# Altium footprint library INDM540X520X300L120X220N.PcbLib: 1 footprints
Each footprint in its own frame and in the unit in brackets; x right, y up, seen from the top. Pads: shape width x height; smd on the part's side, far side on the other; paste and mask are expansions set on the pad; w line width, h text height; cw(c..) or ccw(c..) is an arc to the next point about the centre after c.
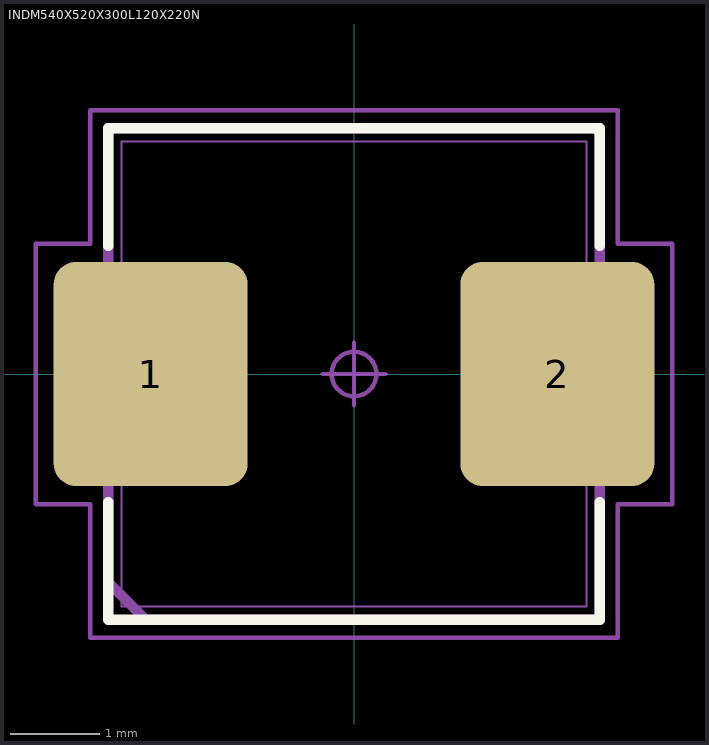
[diagram p0: the footprint, top view; thin cyan lines are the x and y axes]

## INDM540X520X300L120X220N [mm] "Inductor, Molded Body; 5.20 mm L X 5.20 mm W X 3.00 mm H body"
height 3
pads (2):
  rrect23% 2.17x2.51 smd: 1(-2.275,0) 2(2.275,0)
Top Overlay:
  lines w0.12: -2.75,-1.435 -2.75,-2.75 2.75,-2.75 2.75,-1.435 ; -2.75,1.435 -2.75,2.75 2.75,2.75 2.75,1.435
Mechanical 3:
  lines w0.12: -2.75,-2.33 -2.33,-2.75 2.75,-2.75 2.75,2.75 -2.75,2.75 -2.75,-2.33
Mechanical 5:
  lines w0.025: -2.7,-1.1 -1.5,-1.1 -1.5,1.1 -2.7,1.1 -2.7,-1.1 ; -2.6,-2.6 -2.6,2.6 2.6,2.6 2.6,-2.6 -2.6,-2.6 ; 1.5,-1.1 1.5,1.1 2.7,1.1 2.7,-1.1 1.5,-1.1
Mechanical 7:
  circle w0.05: c0,0 r0.25
  lines w0.05: -0.35,0 0.35,0 ; 0,-0.35 0,0.35 ; -3.56,-1.455 -3.56,1.455 -2.95,1.455 -2.95,2.95 2.95,2.95 2.95,1.455 3.56,1.455 3.56,-1.455 2.95,-1.455 2.95,-2.95 -2.95,-2.95 -2.95,-1.455 -3.56,-1.455
Mechanical 9:
  text "'.Designator'" at -5.715,-0.254 h1
3D body "INDM540X520X300L120X220.STEP": height 3, standoff 0, extent -2.7,-2.6 2.7,2.6
3D body: height 22.61, standoff -7.34, extent -3.56,-2.95 3.56,2.95